# EAGLE library part MB85RC* (library ic-Fujitsu)
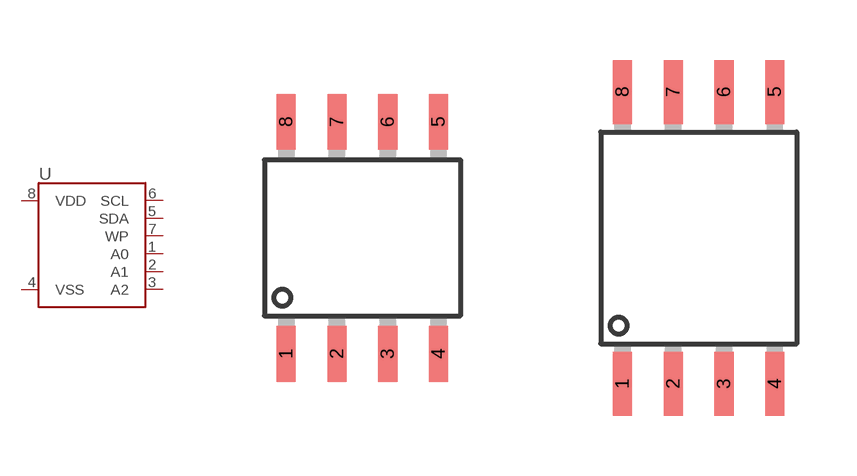
[diagram p1: symbol with the pads of SOP8; footprints SOP8, SOP8W]

Designator prefix U

## MB85RC128APNF-G-JNERE1, MB85RC256VPNF-G-JNERE1, MB85RC64APNF-G-JNERE1, MB85RC64VPNF-G-JNERE1  [SOP8]
1  A0
2  A1
3  A2
4  VSS
5  SDA
6  SCL
7  WP
8  VDD

## MB85RC256VPF-G-JNE2  [SOP8W]
Pads as for SOP8

## Footprint SOP8 (pad centres in mm)
smd 0.48 x 1.4: 1 -1.905,-2.9; 2 -0.635,-2.9; 3 0.635,-2.9; 4 1.905,-2.9; 5 1.905,2.9; 6 0.635,2.9; 7 -0.635,2.9; 8 -1.905,2.9

## Footprint SOP8W (pad centres in mm)
smd 0.48 x 1.6: 1 -1.905,-3.65; 2 -0.635,-3.65; 3 0.635,-3.65; 4 1.905,-3.65; 5 1.905,3.65; 6 0.635,3.65; 7 -0.635,3.65; 8 -1.905,3.65